# Altium footprint library fillcap_lib.PcbLib: 9 footprints
Each footprint in its own frame and in the unit in brackets; x right, y up, seen from the top. Pads: shape width x height; smd on the part's side, far side on the other; paste and mask are expansions set on the pad; w line width, h text height; cw(c..) or ccw(c..) is an arc to the next point about the centre after c.
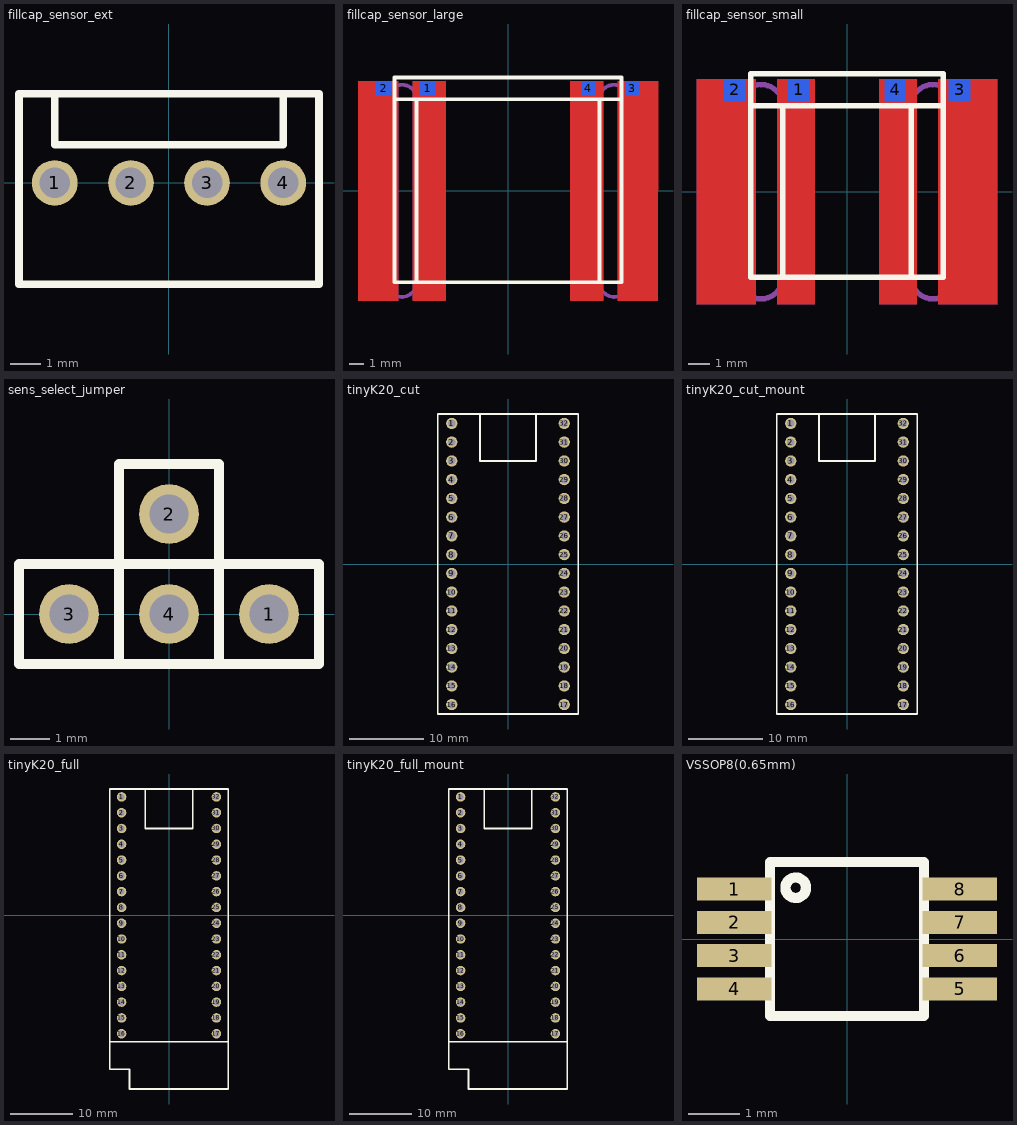
[diagram p0: the footprints below, top view; thin cyan lines are the x and y axes]

## fillcap_sensor_ext [mil]
pads (4):
  round 60 hole 40: 1(-150,0) 2(-50,0) 3(50,0) 4(150,0)
Top Overlay:
  lines w10: -150,115 -150,50 150,50 150,115 ; -196.99,-133 -196.99,117 197,117 197,-133 -196.99,-133
3D body: height 420.49, standoff -139.51, extent -197,-125 197,125

## fillcap_sensor_large [mm]
pads (4):
  rect 1x1 smd far side: 1(-5.5,7) 2(-8.5,7) 3(8.5,7) 4(5.5,7)
Top Layer:
  region: 7.5,7.5 7.5,-7.5 10.25,-7.5 10.25,7.5
  region: 6.5,7.5 6.5,-7.5 4.25,-7.5 4.25,7.5
  region: -6.5,7.5 -6.5,-7.5 -4.25,-7.5 -4.25,7.5
  region: -7.5,7.5 -7.5,-7.5 -10.25,-7.5 -10.25,7.5
Bottom Layer:
  region: 7.5,7.5 7.5,-7.5 10.25,-7.5 10.25,7.5
  region: 4.25,7.5 4.25,-7.5 6.5,-7.5 6.5,7.5
  region: -6.5,7.5 -6.5,-7.5 -4.25,-7.5 -4.25,7.5
  region: -10.25,7.5 -10.25,-7.5 -7.5,-7.5 -7.5,7.5
Top Overlay:
  lines w0.254: -7.75,6.25 -6.25,6.25 ; 7.75,6.25 6.25,6.25 ; -6.25,-6.25 -7.75,-6.25 -7.75,7.75 7.75,7.75 7.75,-6.25 6.25,-6.25 ; -6.25,-6.25 6.25,-6.25 ; -6.25,-6.25 -6.25,6.25 ; -6.25,6.25 6.25,6.25 ; 6.25,-6.25 6.25,6.25
Mechanical 1:
  lines w0.254: -8.25,-6.25 ccw(c-7.25,-6.25) -7.25,-7.25 ccw(c-7.25,-6.25) -6.25,-6.25 -6.25,6.25 ccw(c-7.25,6.25) -7.25,7.25 ccw(c-7.25,6.25) -8.25,6.25 -8.25,-6.25 ; 6.25,-6.25 ccw(c7.25,-6.25) 7.25,-7.25 ccw(c7.25,-6.25) 8.25,-6.25 8.25,6.25 ccw(c7.25,6.25) 7.25,7.25 ccw(c7.25,6.25) 6.25,6.25 6.25,-6.25
3D body: height 44.5, standoff -2, extent -7.75,-6.25 -6.25,6.25
3D body: height 44.5, standoff -2, extent 6.25,-6.25 7.75,6.25
3D body: height 44.5, standoff 0, extent -7.75,6.25 7.75,7.75
3D body: height 1, standoff 0, extent -6.25,-6.25 6.25,6.25
3D body: height 44.5, standoff 0, extent -6.25,-6.25 6.25,6.25

## fillcap_sensor_small [mm]
pads (4):
  rect 1x1 smd far side: 1(-2.25,4.75) 2(-5.25,4.75) 3(5.25,4.75) 4(2.25,4.75)
Top Layer:
  region: -4.25,5.25 -4.25,-5.25 -7,-5.25 -7,5.25
  region: -3.25,5.25 -3.25,-5.25 -1.5,-5.25 -1.5,5.25
  region: 3.25,5.25 3.25,-5.25 1.5,-5.25 1.5,5.25
  region: 4.25,5.25 4.25,-5.25 7,-5.25 7,5.25
Bottom Layer:
  region: -7,5.25 -7,-5.25 -4.25,-5.25 -4.25,5.25
  region: -3.25,5.25 -3.25,-5.25 -1.5,-5.25 -1.5,5.25
  region: 1.5,5.25 1.5,-5.25 3.25,-5.25 3.25,5.25
  region: 4.25,5.25 4.25,-5.25 7,-5.25 7,5.25
Top Overlay:
  lines w0.254: -4.5,4 4.5,4 ; -3,4 -3,-4 -4.5,-4 ; 3,4 3,-4 4.5,-4 ; -4.5,-4 4.5,-4 ; -4.5,-4 -4.5,5.5 4.5,5.5 4.5,-4
Mechanical 1:
  lines w0.254: -5,-4 ccw(c-4,-4) -4,-5 ccw(c-4,-4) -3,-4 -3,4 ccw(c-4,4) -4,5 ccw(c-4,4) -5,4 -5,-4 ; 3,-4 ccw(c4,-4) 4,-5 ccw(c4,-4) 5,-4 5,4 ccw(c4,4) 4,5 ccw(c4,4) 3,4 3,-4
3D body: height 20, standoff 18.8, extent -6,-4 6,4
3D body: height 20, standoff 0, extent -3,-4 3,4
3D body: height 1, standoff 0, extent -3,-4 3,4
3D body: height 18.8, standoff 0, extent -4.5,4 4.5,5.5
3D body: height 18.8, standoff -2, extent 3,-4 4.5,4
3D body: height 18.8, standoff -2, extent -4.5,-4 -3,4

## sens_select_jumper [mil]
pads (4):
  round 60 hole 39.37: 1(100,0) 2(0,100) 3(-100,0) 4(0,0)
Top Overlay:
  lines w10: -50,-50 -50,150 50,150 50,-50 ; 50,-50 150,-50 150,50 -150,50 -150,-50 50,-50
3D body: height 314.96, standoff -118.11, extent -112.5,-12.5 -87.5,12.5
3D body: height 314.96, standoff -118.11, extent 87.5,-12.5 112.5,12.5
3D body: height 314.96, standoff -118.11, extent -12.5,-12.5 12.5,12.5
3D body: height 314.96, standoff -118.11, extent -12.5,87.5 12.5,112.5
3D body: height 78.74, standoff 0, extent -150,-50 150,150

## tinyK20_cut [mil]
pads (32):
  round 60 hole 39.37: 1(-300,750) 2(-300,650) 3(-300,550) 4(-300,450) 5(-300,350) 6(-300,250) 7(-300,150) 8(-300,50) 9(-300,-50) 10(-300,-150) 11(-300,-250) 12(-300,-350) 13(-300,-450) 14(-300,-550) 15(-300,-650) 16(-300,-750) 17(300,-750) 18(300,-650) 19(300,-550) 20(300,-450) 21(300,-350) 22(300,-250) 23(300,-150) 24(300,-50) 25(300,50) 26(300,150) 27(300,250) 28(300,350) 29(300,450) 30(300,550) 31(300,650) 32(300,750)
Top Overlay:
  lines w10: -150,800 -150,550 150,550 150,800 ; -375,-800 375,-800 375,800 -375,800 -375,-800
3D body: height 314.96, standoff 0, extent 250,-800 350,800
3D body: height 314.96, standoff 0, extent -350,-800 -250,800
3D body: height 0, standoff -118.11, extent 287.5,-462.5 312.5,-437.5
3D body: height 0, standoff -118.11, extent 287.5,737.5 312.5,762.5
3D body: height 0, standoff -118.11, extent 287.5,637.5 312.5,662.5
3D body: height 0, standoff -118.11, extent 287.5,537.5 312.5,562.5
3D body: height 0, standoff -118.11, extent 287.5,437.5 312.5,462.5
3D body: height 0, standoff -118.11, extent 287.5,337.5 312.5,362.5
3D body: height 0, standoff -118.11, extent 287.5,237.5 312.5,262.5
3D body: height 0, standoff -118.11, extent 287.5,137.5 312.5,162.5
3D body: height 0, standoff -118.11, extent 287.5,37.5 312.5,62.5
3D body: height 0, standoff -118.11, extent 287.5,-62.5 312.5,-37.5
3D body: height 0, standoff -118.11, extent 287.5,-162.5 312.5,-137.5
3D body: height 0, standoff -118.11, extent 287.5,-262.5 312.5,-237.5
3D body: height 0, standoff -118.11, extent 287.5,-362.5 312.5,-337.5
3D body: height 0, standoff -118.11, extent 312.5,-462.5 312.5,-437.5
3D body: height 0, standoff -118.11, extent 287.5,-562.5 312.5,-537.5
3D body: height 0, standoff -118.11, extent 287.5,-662.5 312.5,-637.5
3D body: height 0, standoff -118.11, extent 287.5,-762.5 312.5,-737.5
3D body: height 0, standoff -118.11, extent -312.5,-762.5 -287.5,-737.5
3D body: height 0, standoff -118.11, extent -312.5,-662.5 -287.5,-637.5
3D body: height 0, standoff -118.11, extent -312.5,-562.5 -287.5,-537.5
3D body: height 0, standoff -118.11, extent -312.5,-462.5 -287.5,-437.5
3D body: height 0, standoff -118.11, extent -312.5,-362.5 -287.5,-337.5
3D body: height 0, standoff -118.11, extent -312.5,-262.5 -287.5,-237.5
3D body: height 0, standoff -118.11, extent -312.5,-162.5 -287.5,-137.5
3D body: height 0, standoff -118.11, extent -312.5,-62.5 -287.5,-37.5
3D body: height 0, standoff -118.11, extent -312.5,37.5 -287.5,62.5
3D body: height 0, standoff -118.11, extent -312.5,137.5 -287.5,162.5
3D body: height 0, standoff -118.11, extent -312.5,237.5 -287.5,262.5
3D body: height 0, standoff -118.11, extent -312.5,337.5 -287.5,362.5
3D body: height 0, standoff -118.11, extent -312.5,437.5 -287.5,462.5
3D body: height 0, standoff -118.11, extent -312.5,537.5 -287.5,562.5
3D body: height 0, standoff -118.11, extent -312.5,637.5 -287.5,662.5
3D body: height 0, standoff -118.11, extent -312.5,737.5 -287.5,762.5

## tinyK20_cut_mount [mil]
pads (32):
  round 60 hole 39.37: 1(-300,750) 2(-300,650) 3(-300,550) 4(-300,450) 5(-300,350) 6(-300,250) 7(-300,150) 8(-300,50) 9(-300,-50) 10(-300,-150) 11(-300,-250) 12(-300,-350) 13(-300,-450) 14(-300,-550) 15(-300,-650) 16(-300,-750) 17(300,-750) 18(300,-650) 19(300,-550) 20(300,-450) 21(300,-350) 22(300,-250) 23(300,-150) 24(300,-50) 25(300,50) 26(300,150) 27(300,250) 28(300,350) 29(300,450) 30(300,550) 31(300,650) 32(300,750)
Top Overlay:
  lines w10: -150,800 -150,550 150,550 150,800 ; -375,-800 -375,800 375,800 375,-800 -375,-800
3D body: height 452.76, standoff 393.7, extent -375,-800 375,800
3D body: height 511.81, standoff -118.11, extent -312.5,737.5 -287.5,762.5
3D body: height 511.81, standoff -118.11, extent -312.5,637.5 -287.5,662.5
3D body: height 511.81, standoff -118.11, extent -312.5,537.5 -287.5,562.5
3D body: height 511.81, standoff -118.11, extent -312.5,437.5 -287.5,462.5
3D body: height 511.81, standoff -118.11, extent -312.5,337.5 -287.5,362.5
3D body: height 511.81, standoff -118.11, extent -312.5,237.5 -287.5,262.5
3D body: height 511.81, standoff -118.11, extent -312.5,137.5 -287.5,162.5
3D body: height 511.81, standoff -118.11, extent -312.5,37.5 -287.5,62.5
3D body: height 511.81, standoff -118.11, extent -312.5,-62.5 -287.5,-37.5
3D body: height 511.81, standoff -118.11, extent -312.5,-162.5 -287.5,-137.5
3D body: height 511.81, standoff -118.11, extent -312.5,-262.5 -287.5,-237.5
3D body: height 511.81, standoff -118.11, extent -312.5,-362.5 -287.5,-337.5
3D body: height 511.81, standoff -118.11, extent -312.5,-462.5 -287.5,-437.5
3D body: height 511.81, standoff -118.11, extent -312.5,-562.5 -287.5,-537.5
3D body: height 511.81, standoff -118.11, extent -312.5,-662.5 -287.5,-637.5
3D body: height 511.81, standoff -118.11, extent -312.5,-762.5 -287.5,-737.5
3D body: height 511.81, standoff -118.11, extent 287.5,-762.5 312.5,-737.5
3D body: height 511.81, standoff -118.11, extent 287.5,-662.5 312.5,-637.5
3D body: height 511.81, standoff -118.11, extent 287.5,-562.5 312.5,-537.5
3D body: height 511.81, standoff -118.11, extent 312.5,-462.5 312.5,-437.5
3D body: height 511.81, standoff -118.11, extent 287.5,-362.5 312.5,-337.5
3D body: height 511.81, standoff -118.11, extent 287.5,-262.5 312.5,-237.5
3D body: height 511.81, standoff -118.11, extent 287.5,-162.5 312.5,-137.5
3D body: height 511.81, standoff -118.11, extent 287.5,-62.5 312.5,-37.5
3D body: height 511.81, standoff -118.11, extent 287.5,37.5 312.5,62.5
3D body: height 511.81, standoff -118.11, extent 287.5,137.5 312.5,162.5
3D body: height 511.81, standoff -118.11, extent 287.5,237.5 312.5,262.5
3D body: height 511.81, standoff -118.11, extent 287.5,337.5 312.5,362.5
3D body: height 511.81, standoff -118.11, extent 287.5,437.5 312.5,462.5
3D body: height 511.81, standoff -118.11, extent 287.5,537.5 312.5,562.5
3D body: height 511.81, standoff -118.11, extent 287.5,637.5 312.5,662.5
3D body: height 511.81, standoff -118.11, extent 287.5,737.5 312.5,762.5
3D body: height 511.81, standoff -118.11, extent 287.5,-462.5 312.5,-437.5
3D body: height 393.7, standoff 0, extent -350,-800 -250,800
3D body: height 393.7, standoff 0, extent 250,-800 350,800
3D body: height 531.5, standoff 452.76, extent -150,550 150,800

## tinyK20_full [mil]
pads (32):
  round 60 hole 39.37: 1(-300,750) 2(-300,650) 3(-300,550) 4(-300,450) 5(-300,350) 6(-300,250) 7(-300,150) 8(-300,50) 9(-300,-50) 10(-300,-150) 11(-300,-250) 12(-300,-350) 13(-300,-450) 14(-300,-550) 15(-300,-650) 16(-300,-750) 17(300,-750) 18(300,-650) 19(300,-550) 20(300,-450) 21(300,-350) 22(300,-250) 23(300,-150) 24(300,-50) 25(300,50) 26(300,150) 27(300,250) 28(300,350) 29(300,450) 30(300,550) 31(300,650) 32(300,750)
Top Overlay:
  lines w10: -150,800 -150,550 150,550 150,800 ; -375,-800 -375,800 375,800 375,-800 ; -375,-800 375,-800 ; -375,-800 -375,-975 -250,-975 -250,-1100 375,-1100 375,-800
3D body: height 0, standoff -118.11, extent -312.5,737.5 -287.5,762.5
3D body: height 0, standoff -118.11, extent -312.5,637.5 -287.5,662.5
3D body: height 0, standoff -118.11, extent -312.5,537.5 -287.5,562.5
3D body: height 0, standoff -118.11, extent -312.5,437.5 -287.5,462.5
3D body: height 0, standoff -118.11, extent -312.5,337.5 -287.5,362.5
3D body: height 0, standoff -118.11, extent -312.5,237.5 -287.5,262.5
3D body: height 0, standoff -118.11, extent -312.5,137.5 -287.5,162.5
3D body: height 0, standoff -118.11, extent -312.5,37.5 -287.5,62.5
3D body: height 0, standoff -118.11, extent -312.5,-62.5 -287.5,-37.5
3D body: height 0, standoff -118.11, extent -312.5,-162.5 -287.5,-137.5
3D body: height 0, standoff -118.11, extent -312.5,-262.5 -287.5,-237.5
3D body: height 0, standoff -118.11, extent -312.5,-362.5 -287.5,-337.5
3D body: height 0, standoff -118.11, extent -312.5,-462.5 -287.5,-437.5
3D body: height 0, standoff -118.11, extent -312.5,-562.5 -287.5,-537.5
3D body: height 0, standoff -118.11, extent -312.5,-662.5 -287.5,-637.5
3D body: height 0, standoff -118.11, extent -312.5,-762.5 -287.5,-737.5
3D body: height 0, standoff -118.11, extent 287.5,-762.5 312.5,-737.5
3D body: height 0, standoff -118.11, extent 287.5,-662.5 312.5,-637.5
3D body: height 0, standoff -118.11, extent 287.5,-562.5 312.5,-537.5
3D body: height 0, standoff -118.11, extent 312.5,-462.5 312.5,-437.5
3D body: height 0, standoff -118.11, extent 287.5,-362.5 312.5,-337.5
3D body: height 0, standoff -118.11, extent 287.5,-262.5 312.5,-237.5
3D body: height 0, standoff -118.11, extent 287.5,-162.5 312.5,-137.5
3D body: height 0, standoff -118.11, extent 287.5,-62.5 312.5,-37.5
3D body: height 0, standoff -118.11, extent 287.5,37.5 312.5,62.5
3D body: height 0, standoff -118.11, extent 287.5,137.5 312.5,162.5
3D body: height 0, standoff -118.11, extent 287.5,237.5 312.5,262.5
3D body: height 0, standoff -118.11, extent 287.5,337.5 312.5,362.5
3D body: height 0, standoff -118.11, extent 287.5,437.5 312.5,462.5
3D body: height 0, standoff -118.11, extent 287.5,537.5 312.5,562.5
3D body: height 0, standoff -118.11, extent 287.5,637.5 312.5,662.5
3D body: height 0, standoff -118.11, extent 287.5,737.5 312.5,762.5
3D body: height 0, standoff -118.11, extent 287.5,-462.5 312.5,-437.5
3D body: height 314.96, standoff 0, extent -350,-800 -250,800
3D body: height 314.96, standoff 0, extent 250,-800 350,800

## tinyK20_full_mount [mil]
pads (32):
  round 60 hole 39.37: 1(-300,750) 2(-300,650) 3(-300,550) 4(-300,450) 5(-300,350) 6(-300,250) 7(-300,150) 8(-300,50) 9(-300,-50) 10(-300,-150) 11(-300,-250) 12(-300,-350) 13(-300,-450) 14(-300,-550) 15(-300,-650) 16(-300,-750) 17(300,-750) 18(300,-650) 19(300,-550) 20(300,-450) 21(300,-350) 22(300,-250) 23(300,-150) 24(300,-50) 25(300,50) 26(300,150) 27(300,250) 28(300,350) 29(300,450) 30(300,550) 31(300,650) 32(300,750)
Top Overlay:
  lines w10: -150,800 -150,550 150,550 150,800 ; -375,-800 -375,800 375,800 375,-800 ; -375,-800 375,-800 ; -375,-800 -375,-975 -250,-975 -250,-1100 375,-1100 375,-800
3D body: height 452.76, standoff 393.7, extent -375,-1100 375,800
3D body: height 511.81, standoff -118.11, extent -312.5,737.5 -287.5,762.5
3D body: height 511.81, standoff -118.11, extent -312.5,637.5 -287.5,662.5
3D body: height 511.81, standoff -118.11, extent -312.5,537.5 -287.5,562.5
3D body: height 511.81, standoff -118.11, extent -312.5,437.5 -287.5,462.5
3D body: height 511.81, standoff -118.11, extent -312.5,337.5 -287.5,362.5
3D body: height 511.81, standoff -118.11, extent -312.5,237.5 -287.5,262.5
3D body: height 511.81, standoff -118.11, extent -312.5,137.5 -287.5,162.5
3D body: height 511.81, standoff -118.11, extent -312.5,37.5 -287.5,62.5
3D body: height 511.81, standoff -118.11, extent -312.5,-62.5 -287.5,-37.5
3D body: height 511.81, standoff -118.11, extent -312.5,-162.5 -287.5,-137.5
3D body: height 511.81, standoff -118.11, extent -312.5,-262.5 -287.5,-237.5
3D body: height 511.81, standoff -118.11, extent -312.5,-362.5 -287.5,-337.5
3D body: height 511.81, standoff -118.11, extent -312.5,-462.5 -287.5,-437.5
3D body: height 511.81, standoff -118.11, extent -312.5,-562.5 -287.5,-537.5
3D body: height 511.81, standoff -118.11, extent -312.5,-662.5 -287.5,-637.5
3D body: height 511.81, standoff -118.11, extent -312.5,-762.5 -287.5,-737.5
3D body: height 511.81, standoff -118.11, extent 287.5,-762.5 312.5,-737.5
3D body: height 511.81, standoff -118.11, extent 287.5,-662.5 312.5,-637.5
3D body: height 511.81, standoff -118.11, extent 287.5,-562.5 312.5,-537.5
3D body: height 511.81, standoff -118.11, extent 312.5,-462.5 312.5,-437.5
3D body: height 511.81, standoff -118.11, extent 287.5,-362.5 312.5,-337.5
3D body: height 511.81, standoff -118.11, extent 287.5,-262.5 312.5,-237.5
3D body: height 511.81, standoff -118.11, extent 287.5,-162.5 312.5,-137.5
3D body: height 511.81, standoff -118.11, extent 287.5,-62.5 312.5,-37.5
3D body: height 511.81, standoff -118.11, extent 287.5,37.5 312.5,62.5
3D body: height 511.81, standoff -118.11, extent 287.5,137.5 312.5,162.5
3D body: height 511.81, standoff -118.11, extent 287.5,237.5 312.5,262.5
3D body: height 511.81, standoff -118.11, extent 287.5,337.5 312.5,362.5
3D body: height 511.81, standoff -118.11, extent 287.5,437.5 312.5,462.5
3D body: height 511.81, standoff -118.11, extent 287.5,537.5 312.5,562.5
3D body: height 511.81, standoff -118.11, extent 287.5,637.5 312.5,662.5
3D body: height 511.81, standoff -118.11, extent 287.5,737.5 312.5,762.5
3D body: height 511.81, standoff -118.11, extent 287.5,-462.5 312.5,-437.5
3D body: height 393.7, standoff 0, extent -350,-800 -250,800
3D body: height 393.7, standoff 0, extent 250,-800 350,800
3D body: height 531.5, standoff 452.76, extent -150,550 150,800

## VSSOP8(0.65mm) [mm]
pads (8):
  rect 1.45x0.45 smd: 1(-2.2,0.975) 2(-2.2,0.325) 3(-2.2,-0.325) 4(-2.2,-0.975) 5(2.2,-0.975) 6(2.2,-0.325) 7(2.2,0.325) 8(2.2,0.975)
Top Overlay:
  circle w0.2: c-1,1 r0.2
  lines w0.2: -1.5,-1.5 -1.5,1.5 1.5,1.5 1.5,-1.5 -1.5,-1.5
3D body: height 0.2, standoff 0, extent 2,-1.17 2.5,-0.78
3D body: height 0.2, standoff 0, extent 2,-0.52 2.5,-0.13
3D body: height 0.2, standoff 0, extent 2,0.13 2.5,0.52
3D body: height 0.2, standoff 0, extent 2,0.78 2.5,1.17
3D body: height 0.2, standoff 0, extent -2.5,-1.17 -2,-0.78
3D body: height 0.2, standoff 0, extent -2.5,-0.52 -2,-0.13
3D body: height 0.2, standoff 0, extent -2.5,0.13 -2,0.52
3D body: height 0.2, standoff 0, extent -2.5,0.78 -2,1.17
3D body: height 0.6, standoff 0, extent 1.5,-1.17 2,-0.78
3D body: height 0.6, standoff 0, extent 1.5,-0.52 2,-0.13
3D body: height 0.6, standoff 0, extent 1.5,0.13 2,0.52
3D body: height 0.6, standoff 0, extent 1.5,0.78 2,1.17
3D body: height 0.6, standoff 0, extent -2,-1.17 -1.5,-0.78
3D body: height 0.6, standoff 0, extent -2,-0.52 -1.5,-0.13
3D body: height 0.6, standoff 0, extent -2,0.13 -1.5,0.52
3D body: height 0.6, standoff 0, extent -2,0.78 -1.5,1.17
3D body: height 1.1, standoff 0, extent -1.499,-1.499 1.499,1.499